# Altium footprint library HardWare.PcbLib: 173 footprints (part 5 of 11)
Each footprint in its own frame and in the unit in brackets; x right, y up, seen from the top. Pads: shape width x height; smd on the part's side, far side on the other; paste and mask are expansions set on the pad; w line width, h text height; cw(c..) or ccw(c..) is an arc to the next point about the centre after c.
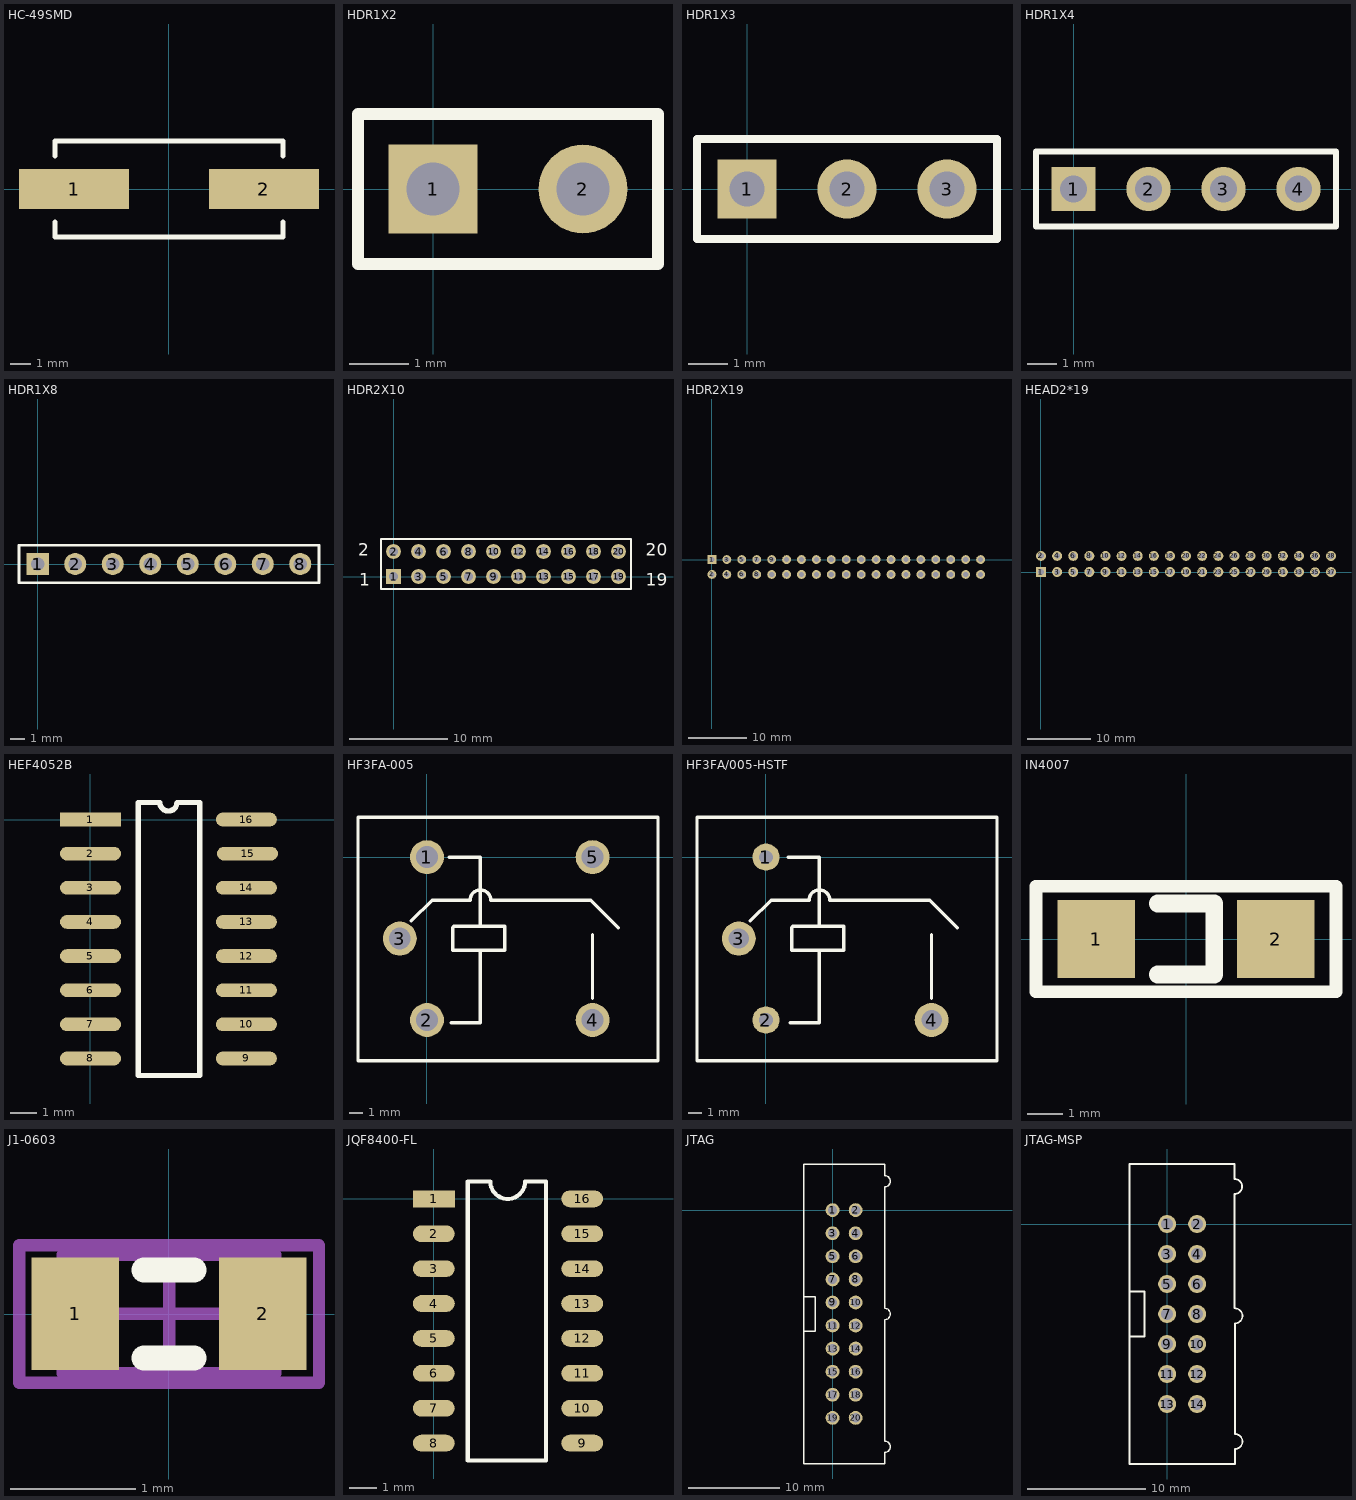
[diagram p4: the footprints below, top view; thin cyan lines are the x and y axes]

## HC-49SMD [mm]
pads (2):
  rect 5.5x2 smd: 1(-4.75,0) 2(4.75,0)
Top Overlay:
  lines w0.254: -5.7,-1.65 -5.7,-2.4 5.7,-2.4 5.7,-1.65 ; -5.7,1.65 -5.7,2.4 5.7,2.4 5.7,1.65
3D body "User Library-hc49_cystal.STEP": height 4, standoff 0, extent -6.7,-2.462 6.7,2.438

## HDR1X2 [mm] "Connector; Header; 2 Position"
height 1.75
pads (2):
  rect 1.5x1.5 hole 0.9: 1(0,0)
  round 1.5 hole 0.9: 2(2.54,0)
Top Overlay:
  lines w0.2: -1.27,-1.27 -1.27,1.27 3.81,1.27 3.81,-1.27 -1.27,-1.27

## HDR1X3 [mm] "Connector; Header; 3 Position"
pads (3):
  rect 1.5x1.5 hole 0.9: 1(0,0)
  round 1.5 hole 0.9: 2(2.54,0) 3(5.08,0)
Top Overlay:
  lines w0.2: -1.27,-1.27 -1.27,1.27 6.35,1.27 6.35,-1.27 -1.27,-1.27

## HDR1X4 [mm] "Connector; Header; 4 Position"
height 1.75
pads (4):
  rect 1.5x1.5 hole 0.9: 1(0,0)
  round 1.5 hole 0.9: 2(2.54,0) 3(5.08,0) 4(7.62,0)
Top Overlay:
  lines w0.2: -1.27,-1.27 -1.27,1.27 8.89,1.27 8.89,-1.27 -1.27,-1.27

## HDR1X8 [mm] "Connector; Header; 8 Position"
height 1.75
pads (8):
  rect 1.5x1.5 hole 0.9: 1(0,0)
  round 1.5 hole 0.9: 2(2.54,0) 3(5.08,0) 4(7.62,0) 5(10.16,0) 6(12.7,0) 7(15.24,0) 8(17.78,0)
Top Overlay:
  lines w0.2: -1.27,-1.27 19.05,-1.27 19.05,1.27 -1.27,1.27 -1.27,-1.27

## HDR2X10 [mm] "Connector; Header; 10x2 Position"
height 1.75
pads (20):
  rect 1.5x1.5 hole 0.9: 1(0,0)
  round 1.5 hole 0.9: 2(0,2.54) 3(2.54,0) 4(2.54,2.54) 5(5.08,0) 6(5.08,2.54) 7(7.62,0) 8(7.62,2.54) 9(10.16,0) 10(10.16,2.54) 11(12.7,0) 12(12.7,2.54) 13(15.24,0) 14(15.24,2.54) 15(17.78,0) 16(17.78,2.54) 17(20.32,0) 18(20.32,2.54) 19(22.86,0) 20(22.86,2.54)
Top Overlay:
  lines w0.2: -1.27,-1.27 0.635,-1.27 24.13,-1.27 24.13,3.81 0.635,3.81 -1.27,3.81 -1.27,-1.27
  text "20" at 25.603,2.108 h1.27
  text "19" at 25.603,-0.94 h1.27
  text "1" at -3.48,-0.94 h1.27
  text "2" at -3.607,2.108 h1.27

## HDR2X19 [mm] "Connector; Header; 19x2 Position"
height 1.75
pads (38):
  rect 1.5x1.5 hole 0.9: 1(0,0)
  round 1.5 hole 0.9: 2(0,-2.54) 3(2.54,0) 4(2.54,-2.54) 5(5.08,0) 6(5.08,-2.54) 7(7.62,0) 8(7.62,-2.54) 9(10.16,0) 10(10.16,-2.54) 11(12.7,0) 12(12.7,-2.54) 13(15.24,0) 14(15.24,-2.54) 15(17.78,0) 16(17.78,-2.54) 17(20.32,0) 18(20.32,-2.54) 19(22.86,0) 20(22.86,-2.54) 21(25.4,0) 22(25.4,-2.54) 23(27.94,0) 24(27.94,-2.54) 25(30.48,0) 26(30.48,-2.54) 27(33.02,0) 28(33.02,-2.54) 29(35.56,0) 30(35.56,-2.54) 31(38.1,0) 32(38.1,-2.54) 33(40.64,0) 34(40.64,-2.54) 35(43.18,0) 36(43.18,-2.54) 37(45.72,0) 38(45.72,-2.54)
Top Overlay:

## HEAD2*19 [mil]
height 62.99
pads (38):
  rect 62x62 hole 35: 1(0,0)
  round 62 hole 35: 2(0,100) 3(100,0) 4(100,100) 5(200,0) 6(200,100) 7(300,0) 8(300,100) 9(400,0) 10(400,100) 11(500,0) 12(500,100) 13(600,0) 14(600,100) 15(700,0) 16(700,100) 17(800,0) 18(800,100) 19(900,0) 20(900,100) 21(1000,0) 22(1000,100) 23(1100,0) 24(1100,100) 25(1200,0) 26(1200,100) 27(1300,0) 28(1300,100) 29(1400,0) 30(1400,100) 31(1500,0) 32(1500,100) 33(1600,0) 34(1600,100) 37(1798.72,-0.42) 38(1798.72,99.58)
  round 60 hole 35: 35(1699.58,-0.42) 36(1699.58,99.58)

## HEF4052B [mm]
pads (16):
  rect 2.27x0.508 smd: 1(0,0)
  oval 2.27x0.508 smd: 2(0,-1.27) 3(0,-2.54) 4(0,-3.81) 5(0,-5.08) 6(0,-6.35) 7(0,-7.62) 8(0,-8.89) 9(5.8,-8.89) 10(5.8,-7.62) 11(5.8,-6.35) 12(5.8,-5.08) 13(5.8,-3.81) 14(5.8,-2.54) 15(5.842,-1.27) 16(5.8,0)
Top Overlay:
  lines w0.2: 1.778,-9.525 1.778,0.635 2.582,0.635 ccw(c2.9,0.635) 3.217,0.635 4.064,0.635 4.064,-9.525 1.778,-9.525

## HF3FA-005 [mm]
pads (5):
  round 2.5 hole 1.6: 1(0,0) 2(0,-12) 3(-2,-6) 4(12.2,-12) 5(12.2,0)
Top Overlay:
  lines w0.254: -1.143,-4.699 0.381,-3.175 3.175,-3.175 cw(c3.937,-3.175) 4.699,-3.175 9.144,-3.175 12.065,-3.175 14.097,-5.207 ; 1.651,0 3.937,0 3.937,-5.08 ; 1.778,-12.192 3.937,-12.192 3.937,-6.858 ; 12.192,-10.414 12.192,-5.715 ; 3.937,-6.858 1.905,-6.858 1.905,-5.207 1.958,-5.08 3.937,-5.08 ; 3.937,-6.858 5.715,-6.858 5.715,-5.08 3.937,-5.08 ; -5.08,-14.986 17.018,-14.986 17.018,2.921 -5.08,2.921 -5.08,-14.986

## HF3FA/005-HSTF [mm]
pads (4):
  round 2 hole 1: 1(0,0) 2(0,-12)
  round 2.5 hole 1.5: 3(-2,-6) 4(12.2,-12)
Top Overlay:
  lines w0.254: -1.143,-4.699 0.381,-3.175 3.175,-3.175 cw(c3.937,-3.175) 4.699,-3.175 9.144,-3.175 12.065,-3.175 14.097,-5.207 ; 1.651,0 3.937,0 3.937,-5.08 ; 1.778,-12.192 3.937,-12.192 3.937,-6.858 ; 12.192,-10.414 12.192,-5.715 ; 3.937,-6.858 1.905,-6.858 1.905,-5.207 1.958,-5.08 3.937,-5.08 ; 3.937,-6.858 5.715,-6.858 5.715,-5.08 3.937,-5.08 ; -5.08,-14.986 17.018,-14.986 17.018,2.921 -5.08,2.921 -5.08,-14.986

## IN4007 [mm]
height 1.5
pads (2):
  rect 2.2x2.2 smd: 1(-2.54,0) 2(2.54,0)
Top Overlay:
  lines w0.356: -4.25,-1.5 -4.25,1.5 4.25,1.5 4.25,-1.5 -4.25,-1.5
  lines w0.508: -0.8,-1 0.762,-1 ; -0.8,1 0.762,1 ; 0.8,-1 0.8,1
3D body "SOD-80.STEP": height 1.5, standoff 0, extent -1.75,-0.75 1.75,0.75

## J1-0603 [mm] "Chip Resistor, Body 1.6x0.8mm, IPC High Density"
height 0.9
pads (2):
  rect 0.7x0.9 smd: 1(-0.75,0) 2(0.75,0)
Top Overlay:
  lines w0.2: -0.2,-0.35 0.2,-0.35 ; -0.2,0.35 0.2,0.35
Mechanical 13:
  lines w0.1: -0.85,-0.475 -0.85,0.475 0.85,0.475 0.85,-0.475 -0.85,-0.475
Mechanical 15:
  lines w0.1: -0.475,0 0.475,0 ; 0,-0.475 0,0.475 ; -1.2,-0.55 -1.2,0.55 1.2,0.55 1.2,-0.55 -1.2,-0.55
3D body: height 0.9, standoff 0, extent -0.85,-0.475 0.85,0.475

## JQF8400-FL [mil]
pads (16):
  rect 60x24 smd: 1(0,0)
  oval 60x24 smd: 2(0,-50) 3(0,-100) 4(0,-150) 5(0,-200) 6(0,-250) 7(0,-300) 8(0,-350) 9(212.6,-350) 10(212.6,-300) 11(212.6,-250) 12(212.6,-200) 13(212.6,-150) 14(212.6,-100) 15(212.6,-50) 16(212.6,0)
Top Overlay:
  lines w5.91: 48.58,-375 48.58,25 80.87,25 ccw(c105.87,25) 130.87,25 160.79,25 160.79,-375 48.58,-375

## JTAG [mil]
pads (20):
  round 60 hole 40: 1(0,0) 2(100,0) 3(0,-100) 4(100,-100) 5(0,-200) 6(100,-200) 7(0,-300) 8(100,-300) 9(0,-400) 10(100,-400) 11(0,-500) 12(100,-500) 13(0,-600) 14(100,-600) 15(0,-700) 16(100,-700) 17(0,-800) 18(100,-800) 19(0,-900) 20(100,-900)
Top Overlay:
  lines w6: -125,-525 -75,-525 -75,-375 -125,-375 ; -125,-1100 225,-1100 225,-1050 ccw(c225,-1025) 225,-1000 225,-475 ccw(c225,-450) 225,-425 225,100 ccw(c225,125) 225,150 225,200 -125,200 -125,-1100

## JTAG-MSP [mil] "14pin"
pads (14):
  round 60 hole 40: 1(0,0) 2(100,0) 3(0,-100) 4(100,-100) 5(0,-200) 6(100,-200) 7(0,-300) 8(100,-300) 9(0,-400) 10(100,-400) 11(0,-500) 12(100,-500) 13(0,-600) 14(100,-600)
Top Overlay:
  lines w6: -125,-375 -75,-375 -75,-225 -125,-225 ; 225,-800 -125,-800 -125,200 225,200 225,150 cw(c225,125) 225,100 225,-281 ; 226,-800 226,-750 ccw(c226,-725) 226,-700 226,-331 ccw(c226,-306) 226,-281